# EAGLE library part TPS773* (library ti_exports)
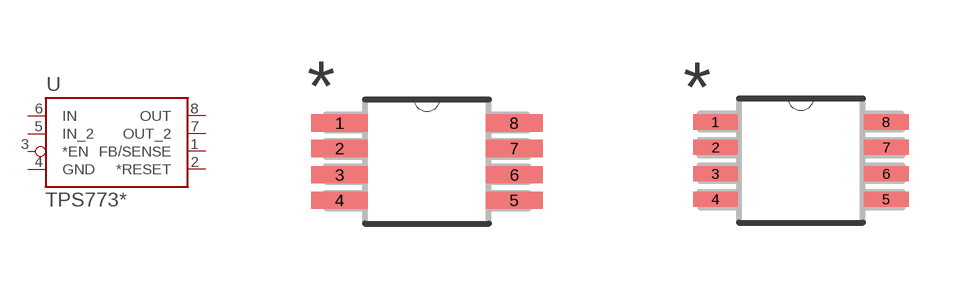
[diagram p0: symbol with the pads of DGK8; footprints DGK8, DGK8-L]

Designator prefix U

## TPS77328, TPS77333  [DGK8]
1  FB/SENSE  in
2  *RESET  out
3  *EN  in
4  GND  pwr
5  IN_2  in
6  IN  in
7  OUT_2  out
8  OUT  out

## TPS773L, TPS77328L, TPS77333L  [DGK8-L]
Pads as for DGK8

## TPS773M, TPS77328M, TPS77333M  [DGK8-M]
Pads as for DGK8

## Footprint DGK8 (pad centres in mm)
smd 1.422 x 0.432: 1 -2.184,0.965; 2 -2.184,0.33; 3 -2.184,-0.33; 4 -2.184,-0.965; 5 2.184,-0.965; 6 2.184,-0.33; 7 2.184,0.33; 8 2.184,0.965

## Footprint DGK8-L (pad centres in mm)
smd 1.118 x 0.381: 1 -2.134,0.965; 2 -2.134,0.33; 3 -2.134,-0.33; 4 -2.134,-0.965; 5 2.134,-0.965; 6 2.134,-0.33; 7 2.134,0.33; 8 2.134,0.965

## Footprint DGK8-M (pad centres in mm)
smd 1.727 x 0.483: 1 -2.235,0.965; 2 -2.235,0.33; 3 -2.235,-0.33; 4 -2.235,-0.965; 5 2.235,-0.965; 6 2.235,-0.33; 7 2.235,0.33; 8 2.235,0.965